# Altium footprint library K155ID1.PcbLib: 2 footprints
Each footprint in its own frame and in the unit in brackets; x right, y up, seen from the top. Pads: shape width x height; smd on the part's side, far side on the other; paste and mask are expansions set on the pad; w line width, h text height; cw(c..) or ccw(c..) is an arc to the next point about the centre after c.
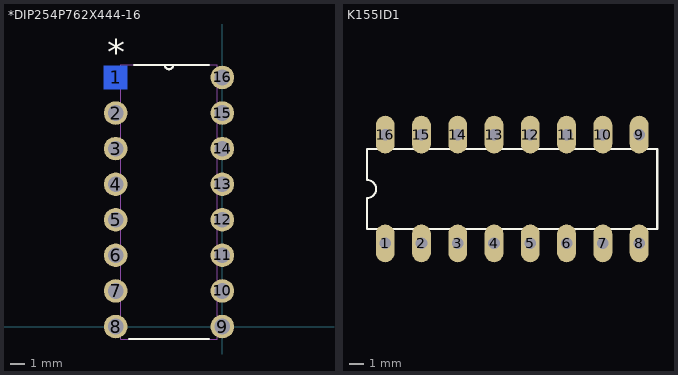
[diagram p0: the footprints below, top view; thin cyan lines are the x and y axes]

## *DIP254P762X444-16 [mil]
pads (16):
  rect 66x66 smd far side: 1(-300,700)
  round 66 hole 44: 2(-300,600) 3(-300,500) 4(-300,400) 5(-300,300) 6(-300,200) 7(-300,100) 8(-300,0) 9(0,0) 10(0,100) 11(0,200) 12(0,300) 13(0,400) 14(0,500) 15(0,600) 16(0,700)
Top Overlay:
  lines w6: -262,-35 -38,-35 ; -248,735 -162,735 ; -38,735 -138,735 ; -162,735 ccw(c-150,735) -138,735 ; -162,735 -138,735
  text "*" at -323,734.16 h73.82
Mechanical 4:
  lines w0: -322,-22 -285,-22 ; -322,-22 -322,22 ; -322,-22 -285,-22 ; -322,-22 -322,22 ; -322,22 -285,22 ; -322,22 -285,22 ; -322,78 -285,78 ; -322,78 -322,122 ; -322,78 -285,78 ; -322,78 -322,122 ; -322,122 -285,122 ; -322,122 -285,122 ; -322,178 -285,178 ; -322,178 -322,222 ; -322,178 -285,178 ; -322,178 -322,222 ; -322,222 -285,222 ; -322,222 -285,222 ; -322,278 -285,278 ; -322,278 -322,322 ; -322,278 -285,278 ; -322,278 -322,322 ; -322,322 -285,322 ; -322,322 -285,322 ; -322,378 -285,378 ; -322,378 -322,422 ; -322,378 -285,378 ; -322,378 -322,422 ; -322,422 -285,422 ; -322,422 -285,422 ; -322,478 -285,478 ; -322,478 -322,522 ; -322,478 -285,478 ; -322,478 -322,522 ; -322,522 -285,522 ; -322,522 -285,522 ; -322,578 -285,578 ; -322,578 -322,622 ; -322,578 -285,578 ; -322,578 -322,622 ; -322,622 -285,622 ; -322,622 -285,622 ; -322,678 -285,678 ; -322,678 -322,722 ; -322,678 -285,678 ; -322,678 -322,722 ; -322,722 -285,722 ; -322,722 -285,722 ; -285,-35 -285,735 ; -285,-35 -15,-35 ; -285,-35 -285,735 ; -285,-35 -15,-35 ; -285,-22 -285,22 ; -285,-22 -285,22 ; -285,78 -285,122 ; -285,78 -285,122 ; -285,178 -285,222 ; -285,178 -285,222 ; -285,278 -285,322 ; -285,278 -285,322 ; -285,378 -285,422 ; -285,378 -285,422 ; -285,478 -285,522 ; -285,478 -285,522 ; -285,578 -285,622 ; -285,578 -285,622 ; -285,678 -285,722 ; -285,678 -285,722 ; -285,735 -162,735 ; -285,735 -162,735 ; -162,735 ccw(c-150,735) -138,735 ; -162,735 ccw(c-150,735) -138,735 ; -162,735 -138,735 ; -162,735 -138,735 ; -138,735 -15,735 ; -138,735 -15,735 ; -15,-35 -15,735 ; -15,-35 -15,735 ; -15,-22 22,-22 ; -15,-22 -15,22 ; -15,-22 22,-22 ; -15,-22 -15,22 ; -15,22 22,22 ; -15,22 22,22 ; -15,78 22,78 ; -15,78 -15,122 ; -15,78 22,78 ; -15,78 -15,122 ; -15,122 22,122 ; -15,122 22,122 ; -15,178 22,178 ; -15,178 -15,222 ; -15,178 22,178 ; -15,178 -15,222 ; -15,222 22,222 ; -15,222 22,222 ; -15,278 22,278 ; -15,278 -15,322 ; -15,278 22,278 ; -15,278 -15,322 ; -15,322 22,322 ; -15,322 22,322 ; -15,378 22,378 ; -15,378 -15,422 ; -15,378 22,378 ; -15,378 -15,422 ; -15,422 22,422 ; -15,422 22,422 ; -15,478 22,478 ; -15,478 -15,522 ; -15,478 22,478 ; -15,478 -15,522 ; -15,522 22,522 ; -15,522 22,522 ; -15,578 22,578 ; -15,578 -15,622 ; -15,578 22,578 ; -15,578 -15,622 ; -15,622 22,622 ; -15,622 22,622 ; -15,678 22,678 ; -15,678 -15,722 ; -15,678 22,678 ; -15,678 -15,722 ; -15,722 22,722 ; -15,722 22,722 ; 22,-22 22,22 ; 22,-22 22,22 ; 22,78 22,122 ; 22,78 22,122 ; 22,178 22,222 ; 22,178 22,222 ; 22,278 22,322 ; 22,278 22,322 ; 22,378 22,422 ; 22,378 22,422 ; 22,478 22,522 ; 22,478 22,522 ; 22,578 22,622 ; 22,578 22,622 ; 22,678 22,722 ; 22,678 22,722
  text "*" at -323,734.16 h73.82
  text "*" at -323,734.16 h73.82

## K155ID1 [mil]
pads (16):
  oval 52x104 hole 32: 1(4755,-4400) 2(4855,-4400) 3(4955,-4400) 4(5055,-4400) 5(5155,-4400) 6(5255,-4400) 7(5355,-4400) 8(5455,-4400) 9(5455,-4100) 10(5355,-4100) 11(5255,-4100) 12(5155,-4100) 13(5055,-4100) 14(4955,-4100) 15(4855,-4100) 16(4755,-4100)
Top Overlay:
  lines w6: 4705,-4360 5505,-4360 5505,-4140 4705,-4140 4705,-4225 cw(c4705,-4250) 4705,-4275 4705,-4360